# Altium footprint library GateWay.PcbLib: 34 footprints (part 1 of 3)
Each footprint in its own frame and in the unit in brackets; x right, y up, seen from the top. Pads: shape width x height; smd on the part's side, far side on the other; paste and mask are expansions set on the pad; w line width, h text height; cw(c..) or ccw(c..) is an arc to the next point about the centre after c.
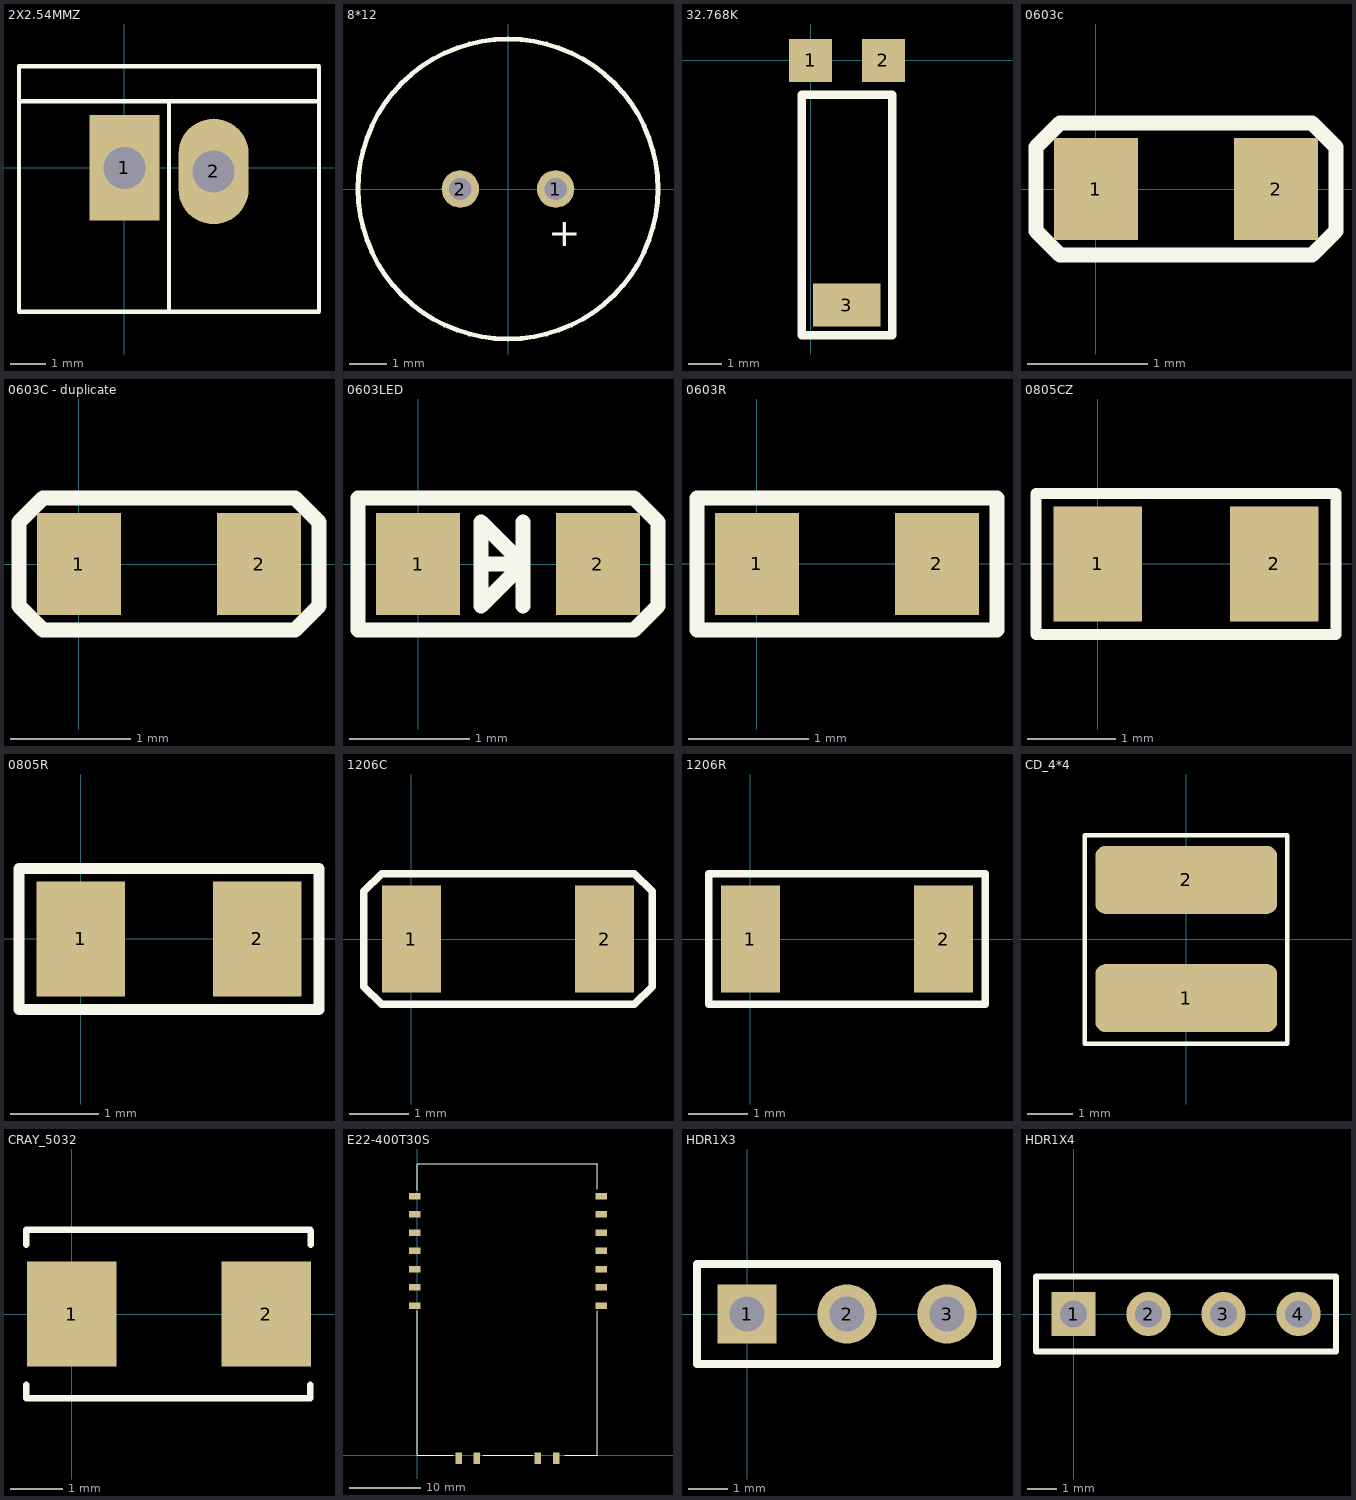
[diagram p0: the footprints below, top view; thin cyan lines are the x and y axes]

## 2X2.54MMZ [mm]
height 2.65
pads (2):
  rect 2x3 hole 1.2: 1(0,0)
  oval 2x3 hole 1.2: 2(2.54,-0.1)
Top Overlay:
  lines w0.127: -3,1.9 5.54,1.9 ; 1.27,-4.1 1.27,1.9 ; -3,-4.1 5.54,-4.1 5.54,2.9 -3,2.9 -3,-4.1

## 8*12 [mm]
height 1.18
pads (2):
  round 1 hole 0.6: 1(1.27,0) 2(-1.27,0)
Top Overlay:
  circle w0.127: c0,0 r4
  text "+" at 1.067,-1.524 h0.76

## 32.768K [mm]
height 1.4
pads (3):
  rect 1.27x1.27 smd: 1(0,0) 2(2.159,0)
  rect 2x1.27 smd: 3(1.07,-7.239)
Top Overlay:
  lines w0.254: -0.254,-8.128 2.413,-8.128 2.413,-1.016 -0.254,-1.016 -0.254,-8.128

## 0603c [mm]
height 1.18
pads (2):
  rect 0.7x0.85 smd: 1(0,0) 2(1.5,0)
Top Overlay:
  lines w0.127: -0.5,-0.35 -0.3,-0.55 1.8,-0.55 2,-0.35 2,0.35 1.8,0.55 -0.3,0.55 -0.5,0.35 -0.5,-0.35

## 0603C - duplicate [mm]
pads (2):
  rect 0.7x0.85 smd: 1(0,0) 2(1.5,0)
Top Overlay:
  lines w0.127: -0.5,-0.35 -0.3,-0.55 1.8,-0.55 2,-0.35 2,0.35 1.8,0.55 -0.3,0.55 -0.5,0.35 -0.5,-0.35

## 0603LED [mm]
height 1.18
pads (2):
  rect 0.7x0.85 smd: 1(0,0) 2(1.5,0)
Top Overlay:
  lines w0.127: 0.525,0 0.875,0 ; 0.875,-0.35 0.875,0.35 ; 0.875,0 0.525,-0.35 0.525,0.35 0.875,0 ; -0.5,-0.55 1.8,-0.55 2,-0.35 2,0.35 1.8,0.55 -0.5,0.55 -0.5,-0.55

## 0603R [mm]
height 2.65
pads (2):
  rect 0.7x0.85 smd: 1(0,0) 2(1.5,0)
Top Overlay:
  lines w0.127: -0.5,-0.55 2,-0.55 2,0.55 -0.5,0.55 -0.5,-0.55

## 0805CZ [mm]
height 1.18
pads (2):
  rect 1x1.3 smd: 1(0,0) 2(2,0)
Top Overlay:
  lines w0.127: -0.7,-0.8 -0.7,0.8 2.7,0.8 2.7,-0.8 -0.7,-0.8 ; 2.45,-0.8 2.45,-0.8

## 0805R [mm]
height 1.18
pads (2):
  rect 1x1.3 smd: 1(0,0) 2(2,0)
Top Overlay:
  lines w0.127: -0.7,-0.8 2.7,-0.8 2.7,0.8 -0.7,0.8 -0.7,-0.8 ; 2.45,-0.8 2.45,-0.8

## 1206C [mm]
height 1.18
pads (2):
  rect 1x1.8 smd: 1(0,0) 2(3.25,0)
Top Overlay:
  lines w0.127: -0.8,-0.8 -0.8,0.8 -0.5,1.1 3.75,1.1 4.05,0.8 4.05,-0.8 3.75,-1.1 -0.5,-1.1 -0.8,-0.8

## 1206R [mm]
height 1.18
pads (2):
  rect 1x1.8 smd: 1(0,0) 2(3.25,0)
Top Overlay:
  lines w0.127: -0.7,-1.1 -0.7,1.1 3.95,1.1 3.95,-1.1 -0.7,-1.1

## CD_4*4 [mm]
height 1.18
pads (2):
  rrect30% 4x1.5 smd: 1(0,-1.3) 2(0,1.3)
Top Overlay:
  lines w0.1: -2.229,-2.3 2.22,-2.3 2.22,2.28 -2.229,2.28 -2.229,-2.3
3D body: height 1, standoff -0.02, extent -2,-2 2,2

## CRAY_5032 [mm]
height 1.18
pads (2):
  rect 1.7x2 smd: 1(0,0) 2(3.7,0)
Top Overlay:
  lines w0.125: -0.864,-1.346 -0.864,-1.6 4.536,-1.6 4.536,-1.346 ; -0.864,1.321 -0.864,1.6 4.536,1.6 ; 4.547,1.321 4.547,1.575

## E22-400T30S [mm]
height 1.18
pads (18):
  rect 1.6x0.9 smd: 1(-0.4,20.8) 2(-0.4,23.34) 3(-0.4,25.88) 4(-0.4,28.42) 5(-0.4,30.96) 6(-0.4,33.5) 7(-0.4,36.04) 8(25.578,36.04) 9(25.578,33.5) 10(25.578,30.96) 11(25.578,28.42) 12(25.578,25.88) 13(25.578,23.34) 14(25.578,20.8)
  rect 0.9x1.6 smd: 15(19.27,-0.4) 16(16.73,-0.4) 17(8.27,-0.4) 18(5.73,-0.4)
Top Overlay:
  lines w0.127: 0,20.091 0,0 4.978,0 ; 0,36.83 0,40.462 0.038,40.5 25,40.5 25.019,40.481 25.019,37.008 ; 9.119,0 16.002,0 ; 20.472,0 25,0 25,20.091

## HDR1X3 [mm] "Connector; Header; 3 Position"
height 1.18
pads (3):
  rect 1.5x1.5 hole 0.9: 1(0,0)
  round 1.5 hole 0.9: 2(2.54,0) 3(5.08,0)
Top Overlay:
  lines w0.2: -1.27,-1.27 -1.27,1.27 6.35,1.27 6.35,-1.27 -1.27,-1.27

## HDR1X4 [mm] "Connector; Header; 4 Position"
height 1.18
pads (4):
  rect 1.5x1.5 hole 0.9: 1(0,0)
  round 1.5 hole 0.9: 2(2.54,0) 3(5.08,0) 4(7.62,0)
Top Overlay:
  lines w0.2: -1.27,-1.27 8.89,-1.27 8.89,1.27 -1.27,1.27 -1.27,-1.27